# Altium schematic symbol library CODEC.SchLib: 2 symbols
Pins are listed as number, name and electrical type; pins without a type are passive.

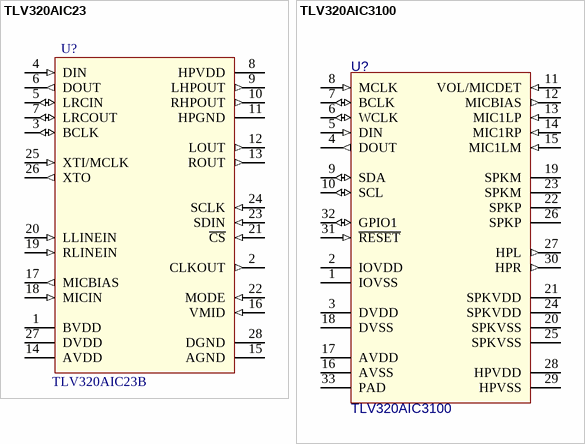
[diagram p0: symbols TLV320AIC23 to TLV320AIC3100]

## TLV320AIC23
designator U?, comment TLV320AIC23B
Stereo Audio CODEC
footprint TSSOP28
ibis TLV320AIC23BPW (Model Description)
pins: 1 BVDD (power), 2 CLKOUT (out), 3 BCLK (io), 4 DIN (in), 5 LRCIN (io), 6 DOUT (out), 7 LRCOUT (io), 8 HPVDD (power), 9 LHPOUT (out), 10 RHPOUT (out), 11 HPGND (power), 12 LOUT (out), 13 ROUT (out), 14 AVDD (power), 15 AGND (power), 16 VMID (in), 17 MICBIAS (out), 18 MICIN (in), 19 RLINEIN (in), 20 LLINEIN (in), 21 ~{CS} (in), 22 MODE (in), 23 SDIN (in), 24 SCLK (in), 25 XTI/MCLK (in), 26 XTO (out), 27 DVDD (power), 28 DGND

## TLV320AIC3100
designator U?
Low-Power Audio Codec With Audio Processing / and Mono Class‑D Amplifier; Value: TLV320AIC3100
footprint QFN-32-5X5
pins: 1 IOVSS (power), 2 IOVDD (power), 3 DVDD (power), 4 DOUT (out), 5 DIN (in), 6 WCLK (io), 7 BCLK (io), 8 MCLK (in), 9 SDA (io), 10 SCL (io), 11 VOL/MICDET (in), 12 MICBIAS (out), 13 MIC1LP (in), 14 MIC1RP (in), 15 MIC1LM (in), 16 AVSS (power), 17 AVDD (power), 18 DVSS (power), 19 SPKM, 20 SPKVSS (power), 21 SPKVDD (power), 22 SPKP, 23 SPKM, 24 SPKVDD (power), 25 SPKVSS (power), 26 SPKP, 27 HPL (out), 28 HPVDD (power), 29 HPVSS (power), 30 HPR (out), 31 ~{RESET} (in), 32 GPIO1 (io), 33 PAD